# Altium footprint library B6B-ZR(LF)(SN).PcbLib: 1 footprints
Each footprint in its own frame and in the unit in brackets; x right, y up, seen from the top. Pads: shape width x height; smd on the part's side, far side on the other; paste and mask are expansions set on the pad; w line width, h text height; cw(c..) or ccw(c..) is an arc to the next point about the centre after c.
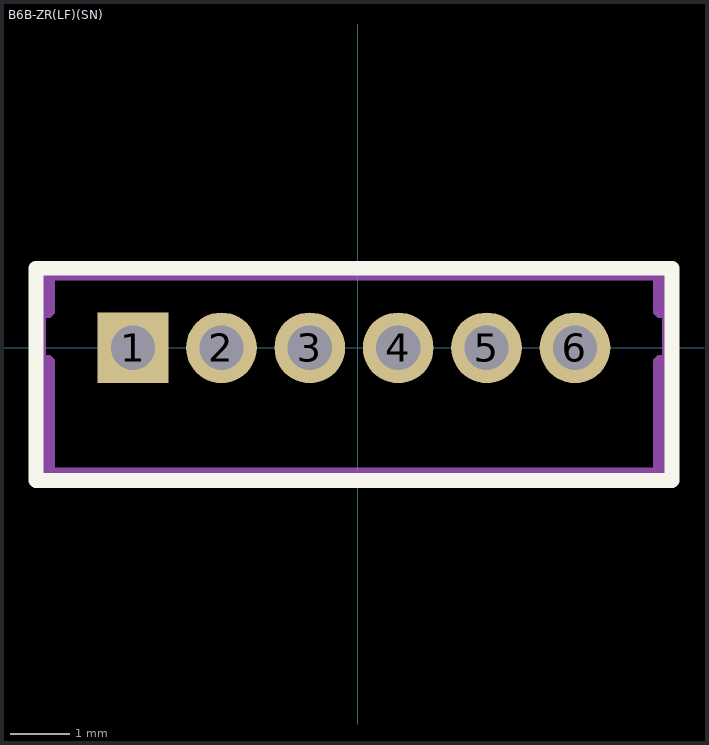
[diagram p0: the footprint, top view; thin cyan lines are the x and y axes]

## B6B-ZR(LF)(SN) [mm]
pads (6):
  rect 1.2x1.2 hole 0.75: 1(-3.81,0)
  round 1.2 hole 0.75: 2(-2.31,0) 3(-0.81,0) 4(0.69,0) 5(2.19,0) 6(3.69,0)
Top Overlay:
  lines w0.254: -5.46,-2.25 -5.46,1.35 5.34,1.35 5.34,-2.25 -5.46,-2.25
Mechanical 6:
  region: 5.274,-0.254 5.274,-2.159 5.274,-2.184 5.255,-2.231 5.219,-2.267 5.172,-2.286 5.147,-2.286 -5.267,-2.286 -5.292,-2.286 -5.339,-2.267 -5.375,-2.231 -5.394,-2.184 -5.394,-2.159 -5.394,-0.254 -5.394,-0.201 -5.32,-0.127 -5.214,-0.127 -5.14,-0.201 -5.14,-0.254 -5.14,-2.032 5.02,-2.032 5.02,-0.254 5.02,-0.201 5.094,-0.127 5.2,-0.127 5.274,-0.201 5.274,-0.254
  region: -5.394,0.635 -5.394,1.27 -5.394,1.295 -5.375,1.342 -5.339,1.378 -5.292,1.397 -5.267,1.397 5.147,1.397 5.172,1.397 5.219,1.378 5.255,1.342 5.274,1.295 5.274,1.27 5.274,0.635 5.274,0.582 5.2,0.508 5.094,0.508 5.02,0.582 5.02,0.635 5.02,1.143 -5.14,1.143 -5.14,0.635 -5.14,0.582 -5.214,0.508 -5.32,0.508 -5.394,0.582 -5.394,0.635
Mechanical 15:
  region: 3.94,0 3.939,0.049 3.9,0.14 3.83,0.209 3.739,0.246 3.641,0.246 3.55,0.209 3.479,0.14 3.441,0.049 3.44,0 3.441,-0.049 3.479,-0.14 3.55,-0.209 3.641,-0.246 3.739,-0.246 3.83,-0.209 3.9,-0.14 3.939,-0.049 3.94,0
  region: 2.44,0 2.439,0.049 2.4,0.14 2.33,0.209 2.239,0.246 2.141,0.246 2.05,0.209 1.98,0.14 1.941,0.049 1.94,0 1.941,-0.049 1.98,-0.14 2.05,-0.209 2.141,-0.246 2.239,-0.246 2.33,-0.209 2.4,-0.14 2.439,-0.049 2.44,0
  region: 0.94,0 0.939,0.049 0.9,0.14 0.83,0.209 0.739,0.246 0.641,0.246 0.55,0.209 0.479,0.14 0.441,0.049 0.44,0 0.441,-0.049 0.479,-0.14 0.55,-0.209 0.641,-0.246 0.739,-0.246 0.83,-0.209 0.9,-0.14 0.939,-0.049 0.94,0
  region: -0.56,0 -0.561,0.049 -0.6,0.14 -0.67,0.209 -0.761,0.246 -0.859,0.246 -0.95,0.209 -1.02,0.14 -1.059,0.049 -1.06,0 -1.059,-0.049 -1.02,-0.14 -0.95,-0.209 -0.859,-0.246 -0.761,-0.246 -0.67,-0.209 -0.6,-0.14 -0.561,-0.049 -0.56,0
  region: -2.06,0 -2.061,0.049 -2.1,0.14 -2.17,0.209 -2.261,0.246 -2.359,0.246 -2.45,0.209 -2.521,0.14 -2.559,0.049 -2.56,0 -2.559,-0.049 -2.521,-0.14 -2.45,-0.209 -2.359,-0.246 -2.261,-0.246 -2.17,-0.209 -2.1,-0.14 -2.061,-0.049 -2.06,0
  region: -3.56,0 -3.561,0.049 -3.6,0.14 -3.67,0.209 -3.761,0.246 -3.859,0.246 -3.95,0.209 -4.02,0.14 -4.059,0.049 -4.06,0 -4.059,-0.049 -4.02,-0.14 -3.95,-0.209 -3.859,-0.246 -3.761,-0.246 -3.67,-0.209 -3.6,-0.14 -3.561,-0.049 -3.56,0
  region: -5.25,-2.2 -5.25,-2.175 -5.285,-2.14 -5.335,-2.14 -5.37,-2.175 -5.37,-2.2 -5.37,-2.225 -5.335,-2.26 -5.285,-2.26 -5.25,-2.225 -5.25,-2.2
  lines w0.051: -5.31,-2.2 -5.31,1.3 5.19,1.3 5.19,-2.2 -5.31,-2.2